# Altium integrated library NXP Semiconductors Automotive MOSFETs.IntLib: 540 symbols (part 3 of 16)
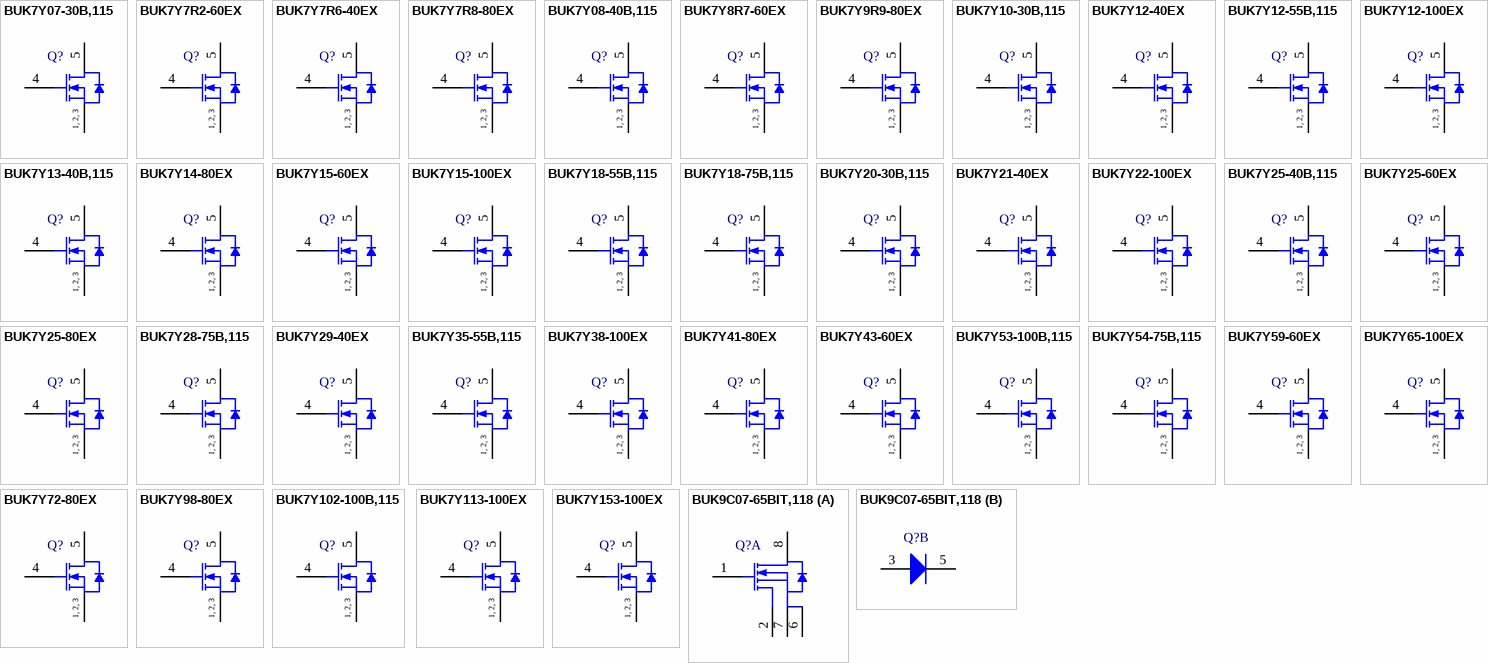
[diagram p16: symbols BUK7Y07-30B,115 to BUK9C07-65BIT,118]

## BUK7Y12-40EX
designator Q?
N-Channel Standard Level MOSFET, 40 V, 52 A, 5-Pin SOT669, Tape and Reel; Manufacturer: NXP Semiconductors; PartNumber: BUK7Y12-40EX; Automotive Qualified: Y; Channel Type: N; ID [max] (A): 52; IDM [max] (A): 210; Packing: Tape & Reel; Qr [typ] (nC): 7.4; VDS [max] (V): 40; VGSth [typ] (V): 3; PackageVersion: 13-02-27, 02/2013; PackageReference: SOT669; PackageDescription: 4-Pin Plastic Single-ended Surface Mounted Package, Body 4.9 x 3.95 mm, Pitch 1.27 mm; Supplier 1: Digi-Key; Supplier Part Number 1: 568-10261-2-ND; Supplier 2: Digi-Key; Supplier Part Number 2: 568-10261-1-ND; Supplier 3: Digi-Key; Supplier Part Number 3: 568-10261-6-ND; Supplier 4: Mouser; Supplier Part Number 4: 771-BUK7Y12-40EX; Mounting Technology: Surface Mount; Code_JEDEC: MO-235; ComponentLink1Description: Manufacturer URL; ComponentLink1URL: http://www.nxp.com/; ComponentLink2Description: Datasheet; ComponentLink2URL: http://www.nxp.com/documents/data_sheet/BUK7Y12-40E.pdf; ComponentLink3Description: Package Specification; ComponentLink3URL: http://www.nxp.com/documents/outline_drawing/sot669_po.pdf
footprint NXP-SOT669_N (DPAK, 4-Leads, Body 5x4.1mm, Pitch 1.27mm, IPC Medium Density)
footprint NXP-SOT669_L (DPAK, 4-Leads, Body 5x4.1mm, Pitch 1.27mm, IPC High Density)
footprint NXP-SOT669_M (DPAK, 4-Leads, Body 5x4.1mm, Pitch 1.27mm, IPC Low Density)
pins: 1 S "source", 2 S "source", 3 S "source", 4 G "gate", 5 D "mounting base; connected to drain"
text: 1, 2, 3

## BUK7Y12-55B,115
designator Q?
N-Channel TrenchMOS Standard Level FET, 55 V, 61.8 A, 5-Pin SOT669, Tape and Reel; Manufacturer: NXP Semiconductors; PartNumber: BUK7Y12-55B,115; Automotive Qualified: Y; Channel Type: N; ID [max] (A): 61.8; IDM [max] (A): 247; Packing: Tape & Reel; Qr [typ] (nC): 84; VDS [max] (V): 55; VGSth [typ] (V): 3; DatasheetVersion: Rev. 03; PackageVersion: 13-02-27, 02/2013; PackageReference: SOT669; PackageDescription: 4-Pin Plastic Single-ended Surface Mounted Package, Body 4.9 x 3.95 mm, Pitch 1.27 mm; Supplier 1: Digi-Key; Supplier Part Number 1: 568-5514-2-ND; Supplier 2: Digi-Key; Supplier Part Number 2: 568-5514-1-ND; Supplier 3: Digi-Key; Supplier Part Number 3: 568-5514-6-ND; Supplier 4: Mouser; Supplier Part Number 4: 771-BUK7Y12-55B115; Mounting Technology: Surface Mount; Code_JEDEC: MO-235; ComponentLink1Description: Manufacturer URL; ComponentLink1URL: http://www.nxp.com/; ComponentLink2Description: Datasheet; ComponentLink2URL: http://www.nxp.com/documents/data_sheet/BUK7Y12-55B.pdf; ComponentLink3Description: Package Specification; ComponentLink3URL: http://www.nxp.com/documents/outline_drawing/sot669_po.pdf
footprint NXP-SOT669_N (DPAK, 4-Leads, Body 5x4.1mm, Pitch 1.27mm, IPC Medium Density)
footprint NXP-SOT669_L (DPAK, 4-Leads, Body 5x4.1mm, Pitch 1.27mm, IPC High Density)
footprint NXP-SOT669_M (DPAK, 4-Leads, Body 5x4.1mm, Pitch 1.27mm, IPC Low Density)
pins: 1 S "source", 2 S "source", 3 S "source", 4 G "gate", 5 D "mounting base; connected to drain"
text: 1, 2, 3

## BUK7Y12-100EX
designator Q?
N-Channel Standard Level MOSFET, 100 V, 85 A, 5-Pin SOT669, Tape and Reel; Manufacturer: NXP Semiconductors; PartNumber: BUK7Y12-100EX; Automotive Qualified: Y; Channel Type: N; ID [max] (A): 85; IDM [max] (A): 339; Packing: Tape & Reel; Qr [typ] (nC): 104; VDS [max] (V): 100; VGSth [typ] (V): 3; PackageVersion: 13-02-27, 02/2013; PackageReference: SOT669; PackageDescription: 4-Pin Plastic Single-ended Surface Mounted Package, Body 4.9 x 3.95 mm, Pitch 1.27 mm; Supplier 1: Digi-Key; Supplier Part Number 1: 568-10963-2-ND; Supplier 2: Digi-Key; Supplier Part Number 2: 568-10963-1-ND; Supplier 3: Digi-Key; Supplier Part Number 3: 568-10963-6-ND; Supplier 4: Mouser; Supplier Part Number 4: 771-BUK7Y12-100EX; Mounting Technology: Surface Mount; Code_JEDEC: MO-235; ComponentLink1Description: Manufacturer URL; ComponentLink1URL: http://www.nxp.com/; ComponentLink2Description: Datasheet; ComponentLink2URL: http://www.nxp.com/documents/data_sheet/BUK7Y12-100E.pdf; ComponentLink3Description: Package Specification; ComponentLink3URL: http://www.nxp.com/documents/outline_drawing/sot669_po.pdf
footprint NXP-SOT669_N (DPAK, 4-Leads, Body 5x4.1mm, Pitch 1.27mm, IPC Medium Density)
footprint NXP-SOT669_L (DPAK, 4-Leads, Body 5x4.1mm, Pitch 1.27mm, IPC High Density)
footprint NXP-SOT669_M (DPAK, 4-Leads, Body 5x4.1mm, Pitch 1.27mm, IPC Low Density)
pins: 1 S "source", 2 S "source", 3 S "source", 4 G "gate", 5 D "mounting base; connected to drain"
text: 1, 2, 3

## BUK7Y13-40B,115
designator Q?
N-Channel TrenchMOS Standard Level FET, 40 V, 58 A, 5-Pin SOT669, Tape and Reel; Manufacturer: NXP Semiconductors; PartNumber: BUK7Y13-40B,115; Automotive Qualified: Y; Channel Type: N; ID [max] (A): 58; IDM [max] (A): 234; Packing: Tape & Reel; Qr [typ] (nC): 22; VDS [max] (V): 40; VGSth [typ] (V): 3; DatasheetVersion: Rev. 03; PackageVersion: 13-02-27, 02/2013; PackageReference: SOT669; PackageDescription: 4-Pin Plastic Single-ended Surface Mounted Package, Body 4.9 x 3.95 mm, Pitch 1.27 mm; Supplier 1: Digi-Key; Supplier Part Number 1: 568-6232-2-ND; Supplier 2: Digi-Key; Supplier Part Number 2: 568-6232-1-ND; Supplier 3: Digi-Key; Supplier Part Number 3: 568-6232-6-ND; Supplier 4: Newark; Supplier Part Number 4: 79R1847; Supplier 5: Mouser; Supplier Part Number 5: 771-BUK7Y13-40B,115; Mounting Technology: Surface Mount; Code_JEDEC: MO-235; ComponentLink1Description: Manufacturer URL; ComponentLink1URL: http://www.nxp.com/; ComponentLink2Description: Datasheet; ComponentLink2URL: http://www.nxp.com/documents/data_sheet/BUK7Y13-40B.pdf; ComponentLink3Description: Package Specification; ComponentLink3URL: http://www.nxp.com/documents/outline_drawing/sot669_po.pdf
footprint NXP-SOT669_N (DPAK, 4-Leads, Body 5x4.1mm, Pitch 1.27mm, IPC Medium Density)
footprint NXP-SOT669_L (DPAK, 4-Leads, Body 5x4.1mm, Pitch 1.27mm, IPC High Density)
footprint NXP-SOT669_M (DPAK, 4-Leads, Body 5x4.1mm, Pitch 1.27mm, IPC Low Density)
pins: 1 S "source", 2 S "source", 3 S "source", 4 G "gate", 5 D "mounting base; connected to drain"
text: 1, 2, 3

## BUK7Y14-80EX
designator Q?
N-Channel Standard Level MOSFET, 80 V, 65 A, 5-Pin SOT669, Tape and Reel; Manufacturer: NXP Semiconductors; PartNumber: BUK7Y14-80EX; Automotive Qualified: Y; Channel Type: N; ID [max] (A): 65; IDM [max] (A): 259; Packing: Tape & Reel; Qr [typ] (nC): 32.4; VDS [max] (V): 80; VGSth [typ] (V): 3; PackageVersion: 13-02-27, 02/2013; PackageReference: SOT669; PackageDescription: 4-Pin Plastic Single-ended Surface Mounted Package, Body 4.9 x 3.95 mm, Pitch 1.27 mm; Supplier 1: Digi-Key; Supplier Part Number 1: 568-11415-2-ND; Supplier 2: Digi-Key; Supplier Part Number 2: 568-11415-1-ND; Supplier 3: Digi-Key; Supplier Part Number 3: 568-11415-6-ND; Supplier 4: Mouser; Supplier Part Number 4: 771-BUK7Y14-80EX; Mounting Technology: Surface Mount; Code_JEDEC: MO-235; ComponentLink1Description: Manufacturer URL; ComponentLink1URL: http://www.nxp.com/; ComponentLink2Description: Datasheet; ComponentLink2URL: http://www.nxp.com/documents/data_sheet/BUK7Y14-80E.pdf; ComponentLink3Description: Package Specification; ComponentLink3URL: http://www.nxp.com/documents/outline_drawing/sot669_po.pdf
footprint NXP-SOT669_N (DPAK, 4-Leads, Body 5x4.1mm, Pitch 1.27mm, IPC Medium Density)
footprint NXP-SOT669_L (DPAK, 4-Leads, Body 5x4.1mm, Pitch 1.27mm, IPC High Density)
footprint NXP-SOT669_M (DPAK, 4-Leads, Body 5x4.1mm, Pitch 1.27mm, IPC Low Density)
pins: 1 S "source", 2 S "source", 3 S "source", 4 G "gate", 5 D "mounting base; connected to drain"
text: 1, 2, 3

## BUK7Y15-60EX
designator Q?
N-Channel Standard Level MOSFET, 60 V, 53 A, 5-Pin SOT669, Tape and Reel; Manufacturer: NXP Semiconductors; PartNumber: BUK7Y15-60EX; Automotive Qualified: Y; Channel Type: N; ID [max] (A): 53; IDM [max] (A): 212; Packing: Tape & Reel; Qr [typ] (nC): 20.6; VDS [max] (V): 60; VGSth [typ] (V): 3; PackageVersion: 13-02-27, 02/2013; PackageReference: SOT669; PackageDescription: 4-Pin Plastic Single-ended Surface Mounted Package, Body 4.9 x 3.95 mm, Pitch 1.27 mm; Supplier 1: Digi-Key; Supplier Part Number 1: 568-10262-2-ND; Supplier 2: Digi-Key; Supplier Part Number 2: 568-10262-1-ND; Supplier 3: Digi-Key; Supplier Part Number 3: 568-10262-6-ND; Supplier 4: Mouser; Supplier Part Number 4: 771-BUK7Y15-60EX; Mounting Technology: Surface Mount; Code_JEDEC: MO-235; ComponentLink1Description: Manufacturer URL; ComponentLink1URL: http://www.nxp.com/; ComponentLink2Description: Datasheet; ComponentLink2URL: http://www.nxp.com/documents/data_sheet/BUK7Y15-60E.pdf; ComponentLink3Description: Package Specification; ComponentLink3URL: http://www.nxp.com/documents/outline_drawing/sot669_po.pdf
footprint NXP-SOT669_N (DPAK, 4-Leads, Body 5x4.1mm, Pitch 1.27mm, IPC Medium Density)
footprint NXP-SOT669_L (DPAK, 4-Leads, Body 5x4.1mm, Pitch 1.27mm, IPC High Density)
footprint NXP-SOT669_M (DPAK, 4-Leads, Body 5x4.1mm, Pitch 1.27mm, IPC Low Density)
pins: 1 S "source", 2 S "source", 3 S "source", 4 G "gate", 5 D "mounting base; connected to drain"
text: 1, 2, 3

## BUK7Y15-100EX
designator Q?
N-Channel Standard Level MOSFET, 100 V, 68 A, 5-Pin SOT669, Tape and Reel; Manufacturer: NXP Semiconductors; PartNumber: BUK7Y15-100EX; Automotive Qualified: Y; Channel Type: N; ID [max] (A): 68; IDM [max] (A): 274; Packing: Tape & Reel; Qr [typ] (nC): 82; VDS [max] (V): 100; VGSth [typ] (V): 3; PackageVersion: 13-02-27, 02/2013; PackageReference: SOT669; PackageDescription: 4-Pin Plastic Single-ended Surface Mounted Package, Body 4.9 x 3.95 mm, Pitch 1.27 mm; Supplier 1: Digi-Key; Supplier Part Number 1: 568-10964-2-ND; Supplier 2: Digi-Key; Supplier Part Number 2: 568-10964-1-ND; Supplier 3: Digi-Key; Supplier Part Number 3: 568-10964-6-ND; Supplier 4: Mouser; Supplier Part Number 4: 771-BUK7Y15-100EX; Mounting Technology: Surface Mount; Code_JEDEC: MO-235; ComponentLink1Description: Manufacturer URL; ComponentLink1URL: http://www.nxp.com/; ComponentLink2Description: Datasheet; ComponentLink2URL: http://www.nxp.com/documents/data_sheet/BUK7Y15-100E.pdf; ComponentLink3Description: Package Specification; ComponentLink3URL: http://www.nxp.com/documents/outline_drawing/sot669_po.pdf
footprint NXP-SOT669_N (DPAK, 4-Leads, Body 5x4.1mm, Pitch 1.27mm, IPC Medium Density)
footprint NXP-SOT669_L (DPAK, 4-Leads, Body 5x4.1mm, Pitch 1.27mm, IPC High Density)
footprint NXP-SOT669_M (DPAK, 4-Leads, Body 5x4.1mm, Pitch 1.27mm, IPC Low Density)
pins: 1 S "source", 2 S "source", 3 S "source", 4 G "gate", 5 D "mounting base; connected to drain"
text: 1, 2, 3

## BUK7Y18-55B,115
designator Q?
N-Channel TrenchMOS Standard Level FET, 55 V, 47.4 A, 5-Pin SOT669, Tape and Reel; Manufacturer: NXP Semiconductors; PartNumber: BUK7Y18-55B,115; Automotive Qualified: Y; Channel Type: N; ID [max] (A): 47.4; IDM [max] (A): 189; Packing: Tape & Reel; Qr [typ] (nC): 55; VGSth [typ] (V): 3; DatasheetVersion: Rev. 04; PackageVersion: 13-02-27, 02/2013; PackageReference: SOT669; PackageDescription: 4-Pin Plastic Single-ended Surface Mounted Package, Body 4.9 x 3.95 mm, Pitch 1.27 mm; Supplier 1: Digi-Key; Supplier Part Number 1: 568-5515-2-ND; Supplier 2: Digi-Key; Supplier Part Number 2: 568-5515-1-ND; Supplier 3: Digi-Key; Supplier Part Number 3: 568-5515-6-ND; Supplier 4: Mouser; Supplier Part Number 4: 771-BUK7Y18-55B115; VDS [max] (V): 55; Mounting Technology: Surface Mount; Code_JEDEC: MO-235; ComponentLink1Description: Manufacturer URL; ComponentLink1URL: http://www.nxp.com/; ComponentLink2Description: Datasheet; ComponentLink2URL: http://www.nxp.com/documents/data_sheet/BUK7Y18-55B.pdf; ComponentLink3Description: Package Specification; ComponentLink3URL: http://www.nxp.com/documents/outline_drawing/sot669_po.pdf
footprint NXP-SOT669_N (DPAK, 4-Leads, Body 5x4.1mm, Pitch 1.27mm, IPC Medium Density)
footprint NXP-SOT669_L (DPAK, 4-Leads, Body 5x4.1mm, Pitch 1.27mm, IPC High Density)
footprint NXP-SOT669_M (DPAK, 4-Leads, Body 5x4.1mm, Pitch 1.27mm, IPC Low Density)
pins: 1 S "source", 2 S "source", 3 S "source", 4 G "gate", 5 D "mounting base; connected to drain"
text: 1, 2, 3

## BUK7Y18-75B,115
designator Q?
N-Channel TrenchMOS Standard Level FET, 75 V, 49 A, 5-Pin SOT669, Tape and Reel; Manufacturer: NXP Semiconductors; PartNumber: BUK7Y18-75B,115; Automotive Qualified: Y; Channel Type: N; ID [max] (A): 49; IDM [max] (A): 198; Packing: Tape & Reel; Qr [typ] (nC): 143; VDS [max] (V): 75; VGSth [typ] (V): 3; PackageVersion: 13-02-27, 02/2013; PackageReference: SOT669; PackageDescription: 4-Pin Plastic Single-ended Surface Mounted Package, Body 4.9 x 3.95 mm, Pitch 1.27 mm; Supplier 1: Digi-Key; Supplier Part Number 1: 568-5516-2-ND; Supplier 2: Digi-Key; Supplier Part Number 2: 568-5516-1-ND; Supplier 3: Digi-Key; Supplier Part Number 3: 568-5516-6-ND; Supplier 4: Mouser; Supplier Part Number 4: 771-BUK7Y18-75B115; Mounting Technology: Surface Mount; Code_JEDEC: MO-235; ComponentLink1Description: Manufacturer URL; ComponentLink1URL: http://www.nxp.com/; ComponentLink2Description: Datasheet; ComponentLink2URL: http://www.nxp.com/documents/data_sheet/BUK7Y18-75B.pdf; ComponentLink3Description: Package Specification; ComponentLink3URL: http://www.nxp.com/documents/outline_drawing/sot669_po.pdf
footprint NXP-SOT669_N (DPAK, 4-Leads, Body 5x4.1mm, Pitch 1.27mm, IPC Medium Density)
footprint NXP-SOT669_L (DPAK, 4-Leads, Body 5x4.1mm, Pitch 1.27mm, IPC High Density)
footprint NXP-SOT669_M (DPAK, 4-Leads, Body 5x4.1mm, Pitch 1.27mm, IPC Low Density)
pins: 1 S "source", 2 S "source", 3 S "source", 4 G "gate", 5 D "mounting base; connected to drain"
text: 1, 2, 3

## BUK7Y20-30B,115
designator Q?
N-Channel TrenchMOS Standard Level FET, 30 V, 39.5 A, 5-Pin SOT669, Tape and Reel; Manufacturer: NXP Semiconductors; PartNumber: BUK7Y20-30B,115; Automotive Qualified: Y; Channel Type: N; ID [max] (A): 39.5; IDM [max] (A): 158; Packing: Tape & Reel; Qr [typ] (nC): 27.4; VDS [max] (V): 30; VGSth [typ] (V): 3; DatasheetVersion: Rev. 04; PackageVersion: 13-02-27, 02/2013; PackageReference: SOT669; PackageDescription: 4-Pin Plastic Single-ended Surface Mounted Package, Body 4.9 x 3.95 mm, Pitch 1.27 mm; Supplier 1: Digi-Key; Supplier Part Number 1: 568-5517-2-ND; Supplier 2: Digi-Key; Supplier Part Number 2: 568-5517-1-ND; Supplier 3: Digi-Key; Supplier Part Number 3: 568-5517-6-ND; Supplier 4: Mouser; Supplier Part Number 4: 771-BUK7Y20-30B115; Mounting Technology: Surface Mount; Code_JEDEC: MO-235; ComponentLink1Description: Manufacturer URL; ComponentLink1URL: http://www.nxp.com/; ComponentLink2Description: Datasheet; ComponentLink2URL: http://www.nxp.com/documents/data_sheet/BUK7Y20-30B.pdf; ComponentLink3Description: Package Specification; ComponentLink3URL: http://www.nxp.com/documents/outline_drawing/sot669_po.pdf
footprint NXP-SOT669_N (DPAK, 4-Leads, Body 5x4.1mm, Pitch 1.27mm, IPC Medium Density)
footprint NXP-SOT669_L (DPAK, 4-Leads, Body 5x4.1mm, Pitch 1.27mm, IPC High Density)
footprint NXP-SOT669_M (DPAK, 4-Leads, Body 5x4.1mm, Pitch 1.27mm, IPC Low Density)
pins: 1 S "source", 2 S "source", 3 S "source", 4 G "gate", 5 D "mounting base; connected to drain"
text: 1, 2, 3

## BUK7Y21-40EX
designator Q?
N-Channel Standard Level MOSFET, 40 V, 33 A, 5-Pin SOT669, Tape and Reel; Manufacturer: NXP Semiconductors; PartNumber: BUK7Y21-40EX; Automotive Qualified: Y; Channel Type: N; ID [max] (A): 33; IDM [max] (A): 132; Packing: Tape & Reel; Qr [typ] (nC): 8; VDS [max] (V): 40; VGSth [typ] (V): 3; PackageVersion: 13-02-27, 02/2013; PackageReference: SOT669; PackageDescription: 4-Pin Plastic Single-ended Surface Mounted Package, Body 4.9 x 3.95 mm, Pitch 1.27 mm; Supplier 1: Digi-Key; Supplier Part Number 1: 568-10263-2-ND; Supplier 2: Digi-Key; Supplier Part Number 2: 568-10263-1-ND; Supplier 3: Digi-Key; Supplier Part Number 3: 568-10263-6-ND; Supplier 4: Mouser; Supplier Part Number 4: 771-BUK7Y21-40EX; Mounting Technology: Surface Mount; Code_JEDEC: MO-235; ComponentLink1Description: Manufacturer URL; ComponentLink1URL: http://www.nxp.com/; ComponentLink2Description: Datasheet; ComponentLink2URL: http://www.nxp.com/documents/data_sheet/BUK7Y21-40E.pdf; ComponentLink3Description: Package Specification; ComponentLink3URL: http://www.nxp.com/documents/outline_drawing/sot669_po.pdf
footprint NXP-SOT669_N (DPAK, 4-Leads, Body 5x4.1mm, Pitch 1.27mm, IPC Medium Density)
footprint NXP-SOT669_L (DPAK, 4-Leads, Body 5x4.1mm, Pitch 1.27mm, IPC High Density)
footprint NXP-SOT669_M (DPAK, 4-Leads, Body 5x4.1mm, Pitch 1.27mm, IPC Low Density)
pins: 1 S "source", 2 S "source", 3 S "source", 4 G "gate", 5 D "mounting base; connected to drain"
text: 1, 2, 3

## BUK7Y22-100EX
designator Q?
N-Channel Standard Level MOSFET, 100 V, 49 A, 5-Pin SOT669, Tape and Reel; Manufacturer: NXP Semiconductors; PartNumber: BUK7Y22-100EX; Automotive Qualified: Y; Channel Type: N; ID [max] (A): 49; IDM [max] (A): 196; Packing: Tape & Reel; Qr [typ] (nC): 64; VDS [max] (V): 100; VGSth [typ] (V): 3; PackageVersion: 13-02-27, 02/2013; PackageReference: SOT669; PackageDescription: 4-Pin Plastic Single-ended Surface Mounted Package, Body 4.9 x 3.95 mm, Pitch 1.27 mm; Supplier 1: Digi-Key; Supplier Part Number 1: 568-10965-2-ND; Supplier 2: Digi-Key; Supplier Part Number 2: 568-10965-1-ND; Supplier 3: Digi-Key; Supplier Part Number 3: 568-10965-6-ND; Supplier 4: Mouser; Supplier Part Number 4: 771-BUK7Y22-100EX; Mounting Technology: Surface Mount; Code_JEDEC: MO-235; ComponentLink1Description: Manufacturer URL; ComponentLink1URL: http://www.nxp.com/; ComponentLink2Description: Datasheet; ComponentLink2URL: http://www.nxp.com/documents/data_sheet/BUK7Y22-100E.pdf; ComponentLink3Description: Package Specification; ComponentLink3URL: http://www.nxp.com/documents/outline_drawing/sot669_po.pdf
footprint NXP-SOT669_N (DPAK, 4-Leads, Body 5x4.1mm, Pitch 1.27mm, IPC Medium Density)
footprint NXP-SOT669_L (DPAK, 4-Leads, Body 5x4.1mm, Pitch 1.27mm, IPC High Density)
footprint NXP-SOT669_M (DPAK, 4-Leads, Body 5x4.1mm, Pitch 1.27mm, IPC Low Density)
pins: 1 S "source", 2 S "source", 3 S "source", 4 G "gate", 5 D "mounting base; connected to drain"
text: 1, 2, 3

## BUK7Y25-40B,115
designator Q?
N-Channel TrenchMOS Standard Level FET, 40 V, 35.3 A, 5-Pin SOT669, Tape and Reel; Manufacturer: NXP Semiconductors; PartNumber: BUK7Y25-40B,115; Automotive Qualified: Y; Channel Type: N; ID [max] (A): 35.3; IDM [max] (A): 141; Packing: Tape & Reel; Qr [typ] (nC): 42; VDS [max] (V): 40; VGSth [typ] (V): 3; DatasheetVersion: Rev. 04; PackageVersion: 13-02-27, 02/2013; PackageReference: SOT669; PackageDescription: 4-Pin Plastic Single-ended Surface Mounted Package, Body 4.9 x 3.95 mm, Pitch 1.27 mm; Supplier 1: Digi-Key; Supplier Part Number 1: 568-5518-2-ND; Supplier 2: Digi-Key; Supplier Part Number 2: 568-5518-1-ND; Supplier 3: Digi-Key; Supplier Part Number 3: 568-5518-6-ND; Supplier 4: Mouser; Supplier Part Number 4: 771-BUK7Y2540B115; Mounting Technology: Surface Mount; Code_JEDEC: MO-235; ComponentLink1Description: Manufacturer URL; ComponentLink1URL: http://www.nxp.com/; ComponentLink2Description: Datasheet; ComponentLink2URL: http://www.nxp.com/documents/data_sheet/BUK7Y25-40B.pdf; ComponentLink3Description: Package Specification; ComponentLink3URL: http://www.nxp.com/documents/outline_drawing/sot669_po.pdf
footprint NXP-SOT669_N (DPAK, 4-Leads, Body 5x4.1mm, Pitch 1.27mm, IPC Medium Density)
footprint NXP-SOT669_L (DPAK, 4-Leads, Body 5x4.1mm, Pitch 1.27mm, IPC High Density)
footprint NXP-SOT669_M (DPAK, 4-Leads, Body 5x4.1mm, Pitch 1.27mm, IPC Low Density)
pins: 1 S "source", 2 S "source", 3 S "source", 4 G "gate", 5 D "mounting base; connected to drain"
text: 1, 2, 3

## BUK7Y25-60EX
designator Q?
N-Channel Standard Level MOSFET, 60 V, 34 A, 5-Pin SOT669, Tape and Reel; Manufacturer: NXP Semiconductors; PartNumber: BUK7Y25-60EX; Automotive Qualified: Y; Channel Type: N; ID [max] (A): 34; IDM [max] (A): 136; Packing: Tape & Reel; Qr [typ] (nC): 14.6; VDS [max] (V): 60; VGSth [typ] (V): 3; PackageVersion: 13-02-27, 02/2013; PackageReference: SOT669; PackageDescription: 4-Pin Plastic Single-ended Surface Mounted Package, Body 4.9 x 3.95 mm, Pitch 1.27 mm; Supplier 1: Digi-Key; Supplier Part Number 1: 568-11417-2-ND; Supplier 2: Digi-Key; Supplier Part Number 2: 568-11417-1-ND; Supplier 3: Digi-Key; Supplier Part Number 3: 568-11417-6-ND; Supplier 4: Mouser; Supplier Part Number 4: 771-BUK7Y25-60EX; Mounting Technology: Surface Mount; Code_JEDEC: MO-235; ComponentLink1Description: Manufacturer URL; ComponentLink1URL: http://www.nxp.com/; ComponentLink2Description: Datasheet; ComponentLink2URL: http://www.nxp.com/documents/data_sheet/BUK7Y25-60E.pdf; ComponentLink3Description: Package Specification; ComponentLink3URL: http://www.nxp.com/documents/outline_drawing/sot669_po.pdf
footprint NXP-SOT669_N (DPAK, 4-Leads, Body 5x4.1mm, Pitch 1.27mm, IPC Medium Density)
footprint NXP-SOT669_L (DPAK, 4-Leads, Body 5x4.1mm, Pitch 1.27mm, IPC High Density)
footprint NXP-SOT669_M (DPAK, 4-Leads, Body 5x4.1mm, Pitch 1.27mm, IPC Low Density)
pins: 1 S "source", 2 S "source", 3 S "source", 4 G "gate", 5 D "mounting base; connected to drain"
text: 1, 2, 3

## BUK7Y25-80EX
designator Q?
N-Channel Standard Level MOSFET, 80 V, 39 A, 5-Pin SOT669, Tape and Reel; Manufacturer: NXP Semiconductors; PartNumber: BUK7Y25-80EX; Automotive Qualified: Y; Channel Type: N; ID [max] (A): 39; IDM [max] (A): 156; Packing: Tape & Reel; Qr [typ] (nC): 30.7; VDS [max] (V): 80; VGSth [typ] (V): 3; PackageVersion: 13-02-27, 02/2013; PackageReference: SOT669; PackageDescription: 4-Pin Plastic Single-ended Surface Mounted Package, Body 4.9 x 3.95 mm, Pitch 1.27 mm; Supplier 1: Digi-Key; Supplier Part Number 1: 568-10264-2-ND; Supplier 2: Digi-Key; Supplier Part Number 2: 568-10264-1-ND; Supplier 3: Digi-Key; Supplier Part Number 3: 568-10264-6-ND; Supplier 4: Mouser; Supplier Part Number 4: 771-BUK7Y25-80EX; Mounting Technology: Surface Mount; Code_JEDEC: MO-235; ComponentLink1Description: Manufacturer URL; ComponentLink1URL: http://www.nxp.com/; ComponentLink2Description: Datasheet; ComponentLink2URL: http://www.nxp.com/documents/data_sheet/BUK7Y25-80E.pdf; ComponentLink3Description: Package Specification; ComponentLink3URL: http://www.nxp.com/documents/outline_drawing/sot669_po.pdf
footprint NXP-SOT669_N (DPAK, 4-Leads, Body 5x4.1mm, Pitch 1.27mm, IPC Medium Density)
footprint NXP-SOT669_L (DPAK, 4-Leads, Body 5x4.1mm, Pitch 1.27mm, IPC High Density)
footprint NXP-SOT669_M (DPAK, 4-Leads, Body 5x4.1mm, Pitch 1.27mm, IPC Low Density)
pins: 1 S "source", 2 S "source", 3 S "source", 4 G "gate", 5 D "mounting base; connected to drain"
text: 1, 2, 3

## BUK7Y28-75B,115
designator Q?
N-Channel TrenchMOS Standard Level FET, 75 V, 35.5 A, 5-Pin SOT669, Tape and Reel; Manufacturer: NXP Semiconductors; PartNumber: BUK7Y28-75B,115; Automotive Qualified: Y; Channel Type: N; ID [max] (A): 35.5; IDM [max] (A): 142; Packing: Tape & Reel; Qr [typ] (nC): 115; VDS [max] (V): 75; VGSth [typ] (V): 3; DatasheetVersion: Rev. 04; PackageVersion: 13-02-27, 02/2013; PackageReference: SOT669; PackageDescription: 4-Pin Plastic Single-ended Surface Mounted Package, Body 4.9 x 3.95 mm, Pitch 1.27 mm; Supplier 1: Digi-Key; Supplier Part Number 1: 568-5519-2-ND; Supplier 2: Digi-Key; Supplier Part Number 2: 568-5519-1-ND; Supplier 3: Digi-Key; Supplier Part Number 3: 568-5519-6-ND; Supplier 4: Mouser; Supplier Part Number 4: 771-BUK7Y28-75B115; Mounting Technology: Surface Mount; Code_JEDEC: MO-235; ComponentLink1Description: Manufacturer URL; ComponentLink1URL: http://www.nxp.com/; ComponentLink2Description: Datasheet; ComponentLink2URL: http://www.nxp.com/documents/data_sheet/BUK7Y28-75B.pdf; ComponentLink3Description: Package Specification; ComponentLink3URL: http://www.nxp.com/documents/outline_drawing/sot669_po.pdf
footprint NXP-SOT669_N (DPAK, 4-Leads, Body 5x4.1mm, Pitch 1.27mm, IPC Medium Density)
footprint NXP-SOT669_L (DPAK, 4-Leads, Body 5x4.1mm, Pitch 1.27mm, IPC High Density)
footprint NXP-SOT669_M (DPAK, 4-Leads, Body 5x4.1mm, Pitch 1.27mm, IPC Low Density)
pins: 1 S "source", 2 S "source", 3 S "source", 4 G "gate", 5 D "mounting base; connected to drain"
text: 1, 2, 3

## BUK7Y29-40EX
designator Q?
N-Channel Standard Level MOSFET, 40 V, 26 A, 5-Pin SOT669, Tape and Reel; Manufacturer: NXP Semiconductors; PartNumber: BUK7Y29-40EX; Automotive Qualified: Y; Channel Type: N; ID [max] (A): 26; IDM [max] (A): 102; Packing: Tape & Reel; Qr [typ] (nC): 6.8; VDS [max] (V): 40; VGSth [typ] (V): 3; PackageVersion: 13-02-27, 02/2013; PackageReference: SOT669; PackageDescription: 4-Pin Plastic Single-ended Surface Mounted Package, Body 4.9 x 3.95 mm, Pitch 1.27 mm; Supplier 1: Digi-Key; Supplier Part Number 1: 568-10265-2-ND; Supplier 2: Digi-Key; Supplier Part Number 2: 568-10265-1-ND; Supplier 3: Digi-Key; Supplier Part Number 3: 568-10265-6-ND; Supplier 4: Mouser; Supplier Part Number 4: 771-BUK7Y29-40EX; Mounting Technology: Surface Mount; Code_JEDEC: MO-235; ComponentLink1Description: Manufacturer URL; ComponentLink1URL: http://www.nxp.com/; ComponentLink2Description: Datasheet; ComponentLink2URL: http://www.nxp.com/documents/data_sheet/BUK7Y29-40E.pdf; ComponentLink3Description: Package Specification; ComponentLink3URL: http://www.nxp.com/documents/outline_drawing/sot669_po.pdf
footprint NXP-SOT669_N (DPAK, 4-Leads, Body 5x4.1mm, Pitch 1.27mm, IPC Medium Density)
footprint NXP-SOT669_L (DPAK, 4-Leads, Body 5x4.1mm, Pitch 1.27mm, IPC High Density)
footprint NXP-SOT669_M (DPAK, 4-Leads, Body 5x4.1mm, Pitch 1.27mm, IPC Low Density)
pins: 1 S "source", 2 S "source", 3 S "source", 4 G "gate", 5 D "mounting base; connected to drain"
text: 1, 2, 3

## BUK7Y35-55B,115
designator Q?
N-Channel TrenchMOS Standard Level FET, 55 V, 28.43 A, 5-Pin SOT669, Tape and Reel; Manufacturer: NXP Semiconductors; PartNumber: BUK7Y35-55B,115; Automotive Qualified: Y; Channel Type: N; ID [max] (A): 28.43; IDM [max] (A): 113; Packing: Tape & Reel; Qr [typ] (nC): 59; VDS [max] (V): 55; VGSth [typ] (V): 3; DatasheetVersion: Rev. 04; PackageVersion: 13-02-27, 02/2013; PackageReference: SOT669; PackageDescription: 4-Pin Plastic Single-ended Surface Mounted Package, Body 4.9 x 3.95 mm, Pitch 1.27 mm; Supplier 1: Digi-Key; Supplier Part Number 1: 568-5520-2-ND; Supplier 2: Digi-Key; Supplier Part Number 2: 568-5520-1-ND; Supplier 3: Digi-Key; Supplier Part Number 3: 568-5520-6-ND; Supplier 4: Mouser; Supplier Part Number 4: 771-BUK7Y35-55B115; Mounting Technology: Surface Mount; Code_JEDEC: MO-235; ComponentLink1Description: Manufacturer URL; ComponentLink1URL: http://www.nxp.com/; ComponentLink2Description: Datasheet; ComponentLink2URL: http://www.nxp.com/documents/data_sheet/BUK7Y35-55B.pdf; ComponentLink3Description: Package Specification; ComponentLink3URL: http://www.nxp.com/documents/outline_drawing/sot669_po.pdf
footprint NXP-SOT669_N (DPAK, 4-Leads, Body 5x4.1mm, Pitch 1.27mm, IPC Medium Density)
footprint NXP-SOT669_L (DPAK, 4-Leads, Body 5x4.1mm, Pitch 1.27mm, IPC High Density)
footprint NXP-SOT669_M (DPAK, 4-Leads, Body 5x4.1mm, Pitch 1.27mm, IPC Low Density)
pins: 1 S "source", 2 S "source", 3 S "source", 4 G "gate", 5 D "mounting base; connected to drain"
text: 1, 2, 3

## BUK7Y38-100EX
designator Q?
N-Channel Standard Level MOSFET, 100 V, 30 A, 5-Pin SOT669, Tape and Reel; Manufacturer: NXP Semiconductors; PartNumber: BUK7Y38-100EX; Automotive Qualified: Y; Channel Type: N; ID [max] (A): 30; IDM [max] (A): 120; Packing: Tape & Reel; Qr [typ] (nC): 45.5; VDS [max] (V): 100; VGSth [typ] (V): 3; PackageVersion: 13-02-27, 02/2013; PackageReference: SOT669; PackageDescription: 4-Pin Plastic Single-ended Surface Mounted Package, Body 4.9 x 3.95 mm, Pitch 1.27 mm; Supplier 1: Digi-Key; Supplier Part Number 1: 568-10266-2-ND; Supplier 2: Digi-Key; Supplier Part Number 2: 568-10266-1-ND; Supplier 3: Digi-Key; Supplier Part Number 3: 568-10266-6-ND; Supplier 4: Mouser; Supplier Part Number 4: 771-BUK7Y38-100EX; Mounting Technology: Surface Mount; Code_JEDEC: MO-235; ComponentLink1Description: Manufacturer URL; ComponentLink1URL: http://www.nxp.com/; ComponentLink2Description: Datasheet; ComponentLink2URL: http://www.nxp.com/documents/data_sheet/BUK7Y38-100E.pdf; ComponentLink3Description: Package Specification; ComponentLink3URL: http://www.nxp.com/documents/outline_drawing/sot669_po.pdf
footprint NXP-SOT669_N (DPAK, 4-Leads, Body 5x4.1mm, Pitch 1.27mm, IPC Medium Density)
footprint NXP-SOT669_L (DPAK, 4-Leads, Body 5x4.1mm, Pitch 1.27mm, IPC High Density)
footprint NXP-SOT669_M (DPAK, 4-Leads, Body 5x4.1mm, Pitch 1.27mm, IPC Low Density)
pins: 1 S "source", 2 S "source", 3 S "source", 4 G "gate", 5 D "mounting base; connected to drain"
text: 1, 2, 3

## BUK7Y41-80EX
designator Q?
N-Channel Standard Level MOSFET, 80 V, 25 A, 5-Pin SOT669, Tape and Reel; Manufacturer: NXP Semiconductors; PartNumber: BUK7Y41-80EX; Automotive Qualified: Y; Channel Type: N; ID [max] (A): 25; IDM [max] (A): 100; Packing: Tape & Reel; Qr [typ] (nC): 28.6; VDS [max] (V): 80; VGSth [typ] (V): 3; PackageVersion: 13-02-27, 02/2013; PackageReference: SOT669; PackageDescription: 4-Pin Plastic Single-ended Surface Mounted Package, Body 4.9 x 3.95 mm, Pitch 1.27 mm; Supplier 1: Digi-Key; Supplier Part Number 1: 568-10966-2-ND; Supplier 2: Digi-Key; Supplier Part Number 2: 568-10966-1-ND; Supplier 3: Digi-Key; Supplier Part Number 3: 568-10966-6-ND; Supplier 4: Mouser; Supplier Part Number 4: 771-BUK7Y41-80EX; Mounting Technology: Surface Mount; Code_JEDEC: MO-235; ComponentLink1Description: Manufacturer URL; ComponentLink1URL: http://www.nxp.com/; ComponentLink2Description: Datasheet; ComponentLink2URL: http://www.nxp.com/documents/data_sheet/BUK7Y41-80E.pdf; ComponentLink3Description: Package Specification; ComponentLink3URL: http://www.nxp.com/documents/outline_drawing/sot669_po.pdf
footprint NXP-SOT669_N (DPAK, 4-Leads, Body 5x4.1mm, Pitch 1.27mm, IPC Medium Density)
footprint NXP-SOT669_L (DPAK, 4-Leads, Body 5x4.1mm, Pitch 1.27mm, IPC High Density)
footprint NXP-SOT669_M (DPAK, 4-Leads, Body 5x4.1mm, Pitch 1.27mm, IPC Low Density)
pins: 1 S "source", 2 S "source", 3 S "source", 4 G "gate", 5 D "mounting base; connected to drain"
text: 1, 2, 3

## BUK7Y43-60EX
designator Q?
N-Channel Standard Level MOSFET, 60 V, 22 A, 5-Pin SOT669, Tape and Reel; Manufacturer: NXP Semiconductors; PartNumber: BUK7Y43-60EX; Automotive Qualified: Y; Channel Type: N; ID [max] (A): 22; IDM [max] (A): 87; Packing: Tape & Reel; Qr [typ] (nC): 13; VDS [max] (V): 60; VGSth [typ] (V): 3; PackageVersion: 13-02-27, 02/2013; PackageReference: SOT669; PackageDescription: 4-Pin Plastic Single-ended Surface Mounted Package, Body 4.9 x 3.95 mm, Pitch 1.27 mm; Supplier 1: Digi-Key; Supplier Part Number 1: 568-10267-2-ND; Supplier 2: Digi-Key; Supplier Part Number 2: 568-10267-1-ND; Supplier 3: Digi-Key; Supplier Part Number 3: 568-10267-6-ND; Supplier 4: Mouser; Supplier Part Number 4: 771-BUK7Y43-60EX; Mounting Technology: Surface Mount; Code_JEDEC: MO-235; ComponentLink1Description: Manufacturer URL; ComponentLink1URL: http://www.nxp.com/; ComponentLink2Description: Datasheet; ComponentLink2URL: http://www.nxp.com/documents/data_sheet/BUK7Y43-60E.pdf; ComponentLink3Description: Package Specification; ComponentLink3URL: http://www.nxp.com/documents/outline_drawing/sot669_po.pdf
footprint NXP-SOT669_N (DPAK, 4-Leads, Body 5x4.1mm, Pitch 1.27mm, IPC Medium Density)
footprint NXP-SOT669_L (DPAK, 4-Leads, Body 5x4.1mm, Pitch 1.27mm, IPC High Density)
footprint NXP-SOT669_M (DPAK, 4-Leads, Body 5x4.1mm, Pitch 1.27mm, IPC Low Density)
pins: 1 S "source", 2 S "source", 3 S "source", 4 G "gate", 5 D "mounting base; connected to drain"
text: 1, 2, 3

## BUK7Y53-100B,115
designator Q?
N-Channel TrenchMOS Standard Level FET, 100 V, 24.8 A, 5-Pin SOT669, Tape and Reel; Manufacturer: NXP Semiconductors; PartNumber: BUK7Y53-100B,115; Automotive Qualified: Y; Channel Type: N; ID [max] (A): 24.8; IDM [max] (A): 99; Packing: Tape & Reel; Qr [typ] (nC): 155; VDS [max] (V): 100; VGSth [typ] (V): 3; DatasheetVersion: Rev. 3; PackageVersion: 13-02-27, 02/2013; PackageReference: SOT669; PackageDescription: 4-Pin Plastic Single-ended Surface Mounted Package, Body 4.9 x 3.95 mm, Pitch 1.27 mm; Supplier 1: Digi-Key; Supplier Part Number 1: 568-9713-2-ND; Supplier 2: Digi-Key; Supplier Part Number 2: 568-9713-1-ND; Supplier 3: Digi-Key; Supplier Part Number 3: 568-9713-6-ND; Supplier 4: Mouser; Supplier Part Number 4: 771-BUK7Y53-100B,115; Mounting Technology: Surface Mount; Code_JEDEC: MO-235; ComponentLink1Description: Manufacturer URL; ComponentLink1URL: http://www.nxp.com/; ComponentLink2Description: Datasheet; ComponentLink2URL: http://www.nxp.com/documents/data_sheet/BUK7Y53-100B.pdf; ComponentLink3Description: Package Specification; ComponentLink3URL: http://www.nxp.com/documents/outline_drawing/sot669_po.pdf
footprint NXP-SOT669_N (DPAK, 4-Leads, Body 5x4.1mm, Pitch 1.27mm, IPC Medium Density)
footprint NXP-SOT669_L (DPAK, 4-Leads, Body 5x4.1mm, Pitch 1.27mm, IPC High Density)
footprint NXP-SOT669_M (DPAK, 4-Leads, Body 5x4.1mm, Pitch 1.27mm, IPC Low Density)
pins: 1 S "source", 2 S "source", 3 S "source", 4 G "gate", 5 D "mounting base; connected to drain"
text: 1, 2, 3

## BUK7Y54-75B,115
designator Q?
N-Channel TrenchMOS Standard Level FET, 75 V, 21.4 A, 5-Pin SOT669, Tape and Reel; Manufacturer: NXP Semiconductors; PartNumber: BUK7Y54-75B,115; Automotive Qualified: Y; Channel Type: N; ID [max] (A): 21.4; IDM [max] (A): 86; Packing: Tape & Reel; Qr [typ] (nC): 98; VDS [max] (V): 75; VGSth [typ] (V): 3; DatasheetVersion: Rev. 04; PackageVersion: 13-02-27, 02/2013; PackageReference: SOT669; PackageDescription: 4-Pin Plastic Single-ended Surface Mounted Package, Body 4.9 x 3.95 mm, Pitch 1.27 mm; Supplier 1: Digi-Key; Supplier Part Number 1: 568-5521-2-ND; Supplier 2: Digi-Key; Supplier Part Number 2: 568-5521-1-ND; Supplier 3: Digi-Key; Supplier Part Number 3: 568-5521-6-ND; Supplier 4: Mouser; Supplier Part Number 4: 771-BUK7Y54-75B115; Mounting Technology: Surface Mount; Code_JEDEC: MO-235; ComponentLink1Description: Manufacturer URL; ComponentLink1URL: http://www.nxp.com/; ComponentLink2Description: Datasheet; ComponentLink2URL: http://www.nxp.com/documents/data_sheet/BUK7Y54-75B.pdf; ComponentLink3Description: Package Specification; ComponentLink3URL: http://www.nxp.com/documents/outline_drawing/sot669_po.pdf
footprint NXP-SOT669_N (DPAK, 4-Leads, Body 5x4.1mm, Pitch 1.27mm, IPC Medium Density)
footprint NXP-SOT669_L (DPAK, 4-Leads, Body 5x4.1mm, Pitch 1.27mm, IPC High Density)
footprint NXP-SOT669_M (DPAK, 4-Leads, Body 5x4.1mm, Pitch 1.27mm, IPC Low Density)
pins: 1 S "source", 2 S "source", 3 S "source", 4 G "gate", 5 D "mounting base; connected to drain"
text: 1, 2, 3

## BUK7Y59-60EX
designator Q?
N-Channel Standard Level MOSFET, 60 V, 17 A, 5-Pin SOT669, Tape and Reel; Manufacturer: NXP Semiconductors; PartNumber: BUK7Y59-60EX; Automotive Qualified: Y; Channel Type: N; ID [max] (A): 17; IDM [max] (A): 67; Packing: Tape & Reel; Qr [typ] (nC): 10.3; VDS [max] (V): 60; VGSth [typ] (V): 3; PackageVersion: 13-02-27, 02/2013; PackageReference: SOT669; PackageDescription: 4-Pin Plastic Single-ended Surface Mounted Package, Body 4.9 x 3.95 mm, Pitch 1.27 mm; Supplier 1: Digi-Key; Supplier Part Number 1: 568-10269-2-ND; Supplier 2: Digi-Key; Supplier Part Number 2: 568-10269-1-ND; Supplier 3: Digi-Key; Supplier Part Number 3: 568-10269-6-ND; Supplier 4: Mouser; Supplier Part Number 4: 771-BUK7Y59-60EX; Mounting Technology: Surface Mount; Code_JEDEC: MO-235; ComponentLink1Description: Manufacturer URL; ComponentLink1URL: http://www.nxp.com/; ComponentLink2Description: Datasheet; ComponentLink2URL: http://www.nxp.com/documents/data_sheet/BUK7Y59-60E.pdf; ComponentLink3Description: Package Specification; ComponentLink3URL: http://www.nxp.com/documents/outline_drawing/sot669_po.pdf
footprint NXP-SOT669_N (DPAK, 4-Leads, Body 5x4.1mm, Pitch 1.27mm, IPC Medium Density)
footprint NXP-SOT669_L (DPAK, 4-Leads, Body 5x4.1mm, Pitch 1.27mm, IPC High Density)
footprint NXP-SOT669_M (DPAK, 4-Leads, Body 5x4.1mm, Pitch 1.27mm, IPC Low Density)
pins: 1 S "source", 2 S "source", 3 S "source", 4 G "gate", 5 D "mounting base; connected to drain"
text: 1, 2, 3

## BUK7Y65-100EX
designator Q?
N-Channel Standard Level MOSFET, 100 V, 19 A, 5-Pin SOT669, Tape and Reel; Manufacturer: NXP Semiconductors; PartNumber: BUK7Y65-100EX; Automotive Qualified: Y; Channel Type: N; ID [max] (A): 19; IDM [max] (A): 76; Packing: Tape & Reel; Qr [typ] (nC): 40.6; VDS [max] (V): 100; VGSth [typ] (V): 3; PackageVersion: 13-02-27, 02/2013; PackageReference: SOT669; PackageDescription: 4-Pin Plastic Single-ended Surface Mounted Package, Body 4.9 x 3.95 mm, Pitch 1.27 mm; Supplier 1: Digi-Key; Supplier Part Number 1: 568-10270-2-ND; Supplier 2: Digi-Key; Supplier Part Number 2: 568-10270-1-ND; Supplier 3: Digi-Key; Supplier Part Number 3: 568-10270-6-ND; Supplier 4: Mouser; Supplier Part Number 4: 771-BUK7Y65-100EX; Mounting Technology: Surface Mount; Code_JEDEC: MO-235; ComponentLink1Description: Manufacturer URL; ComponentLink1URL: http://www.nxp.com/; ComponentLink2Description: Datasheet; ComponentLink2URL: http://www.nxp.com/documents/data_sheet/BUK7Y65-100E.pdf; ComponentLink3Description: Package Specification; ComponentLink3URL: http://www.nxp.com/documents/outline_drawing/sot669_po.pdf
footprint NXP-SOT669_N (DPAK, 4-Leads, Body 5x4.1mm, Pitch 1.27mm, IPC Medium Density)
footprint NXP-SOT669_L (DPAK, 4-Leads, Body 5x4.1mm, Pitch 1.27mm, IPC High Density)
footprint NXP-SOT669_M (DPAK, 4-Leads, Body 5x4.1mm, Pitch 1.27mm, IPC Low Density)
pins: 1 S "source", 2 S "source", 3 S "source", 4 G "gate", 5 D "mounting base; connected to drain"
text: 1, 2, 3

## BUK7Y72-80EX
designator Q?
N-Channel Standard Level MOSFET, 80 V, 16 A, 5-Pin SOT669, Tape and Reel; Manufacturer: NXP Semiconductors; PartNumber: BUK7Y72-80EX; Automotive Qualified: Y; Channel Type: N; ID [max] (A): 16; IDM [max] (A): 63; Packing: Tape & Reel; Qr [typ] (nC): 20; VDS [max] (V): 80; VGSth [typ] (V): 3; PackageVersion: 13-02-27, 02/2013; PackageReference: SOT669; PackageDescription: 4-Pin Plastic Single-ended Surface Mounted Package, Body 4.9 x 3.95 mm, Pitch 1.27 mm; Supplier 1: Digi-Key; Supplier Part Number 1: BUK7Y72-80EX-ND; Supplier 2: Mouser; Supplier Part Number 2: 771-BUK7Y72-80EX; Mounting Technology: Surface Mount; Code_JEDEC: MO-235; ComponentLink1Description: Manufacturer URL; ComponentLink1URL: http://www.nxp.com/; ComponentLink2Description: Datasheet; ComponentLink2URL: http://www.nxp.com/documents/data_sheet/BUK7Y72-80E.pdf; ComponentLink3Description: Package Specification; ComponentLink3URL: http://www.nxp.com/documents/outline_drawing/sot669_po.pdf
footprint NXP-SOT669_N (DPAK, 4-Leads, Body 5x4.1mm, Pitch 1.27mm, IPC Medium Density)
footprint NXP-SOT669_L (DPAK, 4-Leads, Body 5x4.1mm, Pitch 1.27mm, IPC High Density)
footprint NXP-SOT669_M (DPAK, 4-Leads, Body 5x4.1mm, Pitch 1.27mm, IPC Low Density)
pins: 1 S "source", 2 S "source", 3 S "source", 4 G "gate", 5 D "mounting base; connected to drain"
text: 1, 2, 3

## BUK7Y98-80EX
designator Q?
N-Channel Standard Level MOSFET, 80 V, 12.3 A, 5-Pin SOT669, Tape and Reel; Manufacturer: NXP Semiconductors; PartNumber: BUK7Y98-80EX; Automotive Qualified: Y; Channel Type: N; ID [max] (A): 12.3; IDM [max] (A): 49; Packing: Tape & Reel; Qr [typ] (nC): 15.8; VDS [max] (V): 80; VGSth [typ] (V): 3; PackageVersion: 13-02-27, 02/2013; PackageReference: SOT669; PackageDescription: 4-Pin Plastic Single-ended Surface Mounted Package, Body 4.9 x 3.95 mm, Pitch 1.27 mm; Supplier 1: Digi-Key; Supplier Part Number 1: 568-10273-2-ND; Supplier 2: Digi-Key; Supplier Part Number 2: 568-10273-1-ND; Supplier 3: Digi-Key; Supplier Part Number 3: 568-10273-6-ND; Supplier 4: Mouser; Supplier Part Number 4: 771-BUK7Y98-80EX; Mounting Technology: Surface Mount; Code_JEDEC: MO-235; ComponentLink1Description: Manufacturer URL; ComponentLink1URL: http://www.nxp.com/; ComponentLink2Description: Datasheet; ComponentLink2URL: http://www.nxp.com/documents/data_sheet/BUK7Y98-80E.pdf; ComponentLink3Description: Package Specification; ComponentLink3URL: http://www.nxp.com/documents/outline_drawing/sot669_po.pdf
footprint NXP-SOT669_N (DPAK, 4-Leads, Body 5x4.1mm, Pitch 1.27mm, IPC Medium Density)
footprint NXP-SOT669_L (DPAK, 4-Leads, Body 5x4.1mm, Pitch 1.27mm, IPC High Density)
footprint NXP-SOT669_M (DPAK, 4-Leads, Body 5x4.1mm, Pitch 1.27mm, IPC Low Density)
pins: 1 S "source", 2 S "source", 3 S "source", 4 G "gate", 5 D "mounting base; connected to drain"
text: 1, 2, 3

## BUK7Y102-100B,115
designator Q?
N-Channel TrenchMOS Standard Level FET, 100 V, 15 A, 5-Pin SOT669, Tape and Reel; Manufacturer: NXP Semiconductors; PartNumber: BUK7Y102-100B,115; Automotive Qualified: Y; Channel Type: N; ID [max] (A): 15; IDM [max] (A): 60; Packing: Tape & Reel; Qr [typ] (nC): 122; VDS [max] (V): 100; VGSth [typ] (V): 3; DatasheetVersion: Rev. 03; PackageVersion: 13-02-27, 02/2013; PackageReference: SOT669; PackageDescription: 4-Pin Plastic Single-ended Surface Mounted Package, Body 4.9 x 3.95 mm, Pitch 1.27 mm; Supplier 1: Digi-Key; Supplier Part Number 1: 568-5513-2-ND; Supplier 2: Digi-Key; Supplier Part Number 2: 568-5513-1-ND; Supplier 3: Digi-Key; Supplier Part Number 3: 568-5513-6-ND; Supplier 4: Mouser; Supplier Part Number 4: 771-BUK7Y102-100B115; Mounting Technology: Surface Mount; Code_JEDEC: MO-235; ComponentLink1Description: Manufacturer URL; ComponentLink1URL: http://www.nxp.com/; ComponentLink2Description: Datasheet; ComponentLink2URL: http://www.nxp.com/documents/data_sheet/BUK7Y102-100B.pdf; ComponentLink3Description: Package Specification; ComponentLink3URL: http://www.nxp.com/documents/outline_drawing/sot669_po.pdf
footprint NXP-SOT669_N (DPAK, 4-Leads, Body 5x4.1mm, Pitch 1.27mm, IPC Medium Density)
footprint NXP-SOT669_L (DPAK, 4-Leads, Body 5x4.1mm, Pitch 1.27mm, IPC High Density)
footprint NXP-SOT669_M (DPAK, 4-Leads, Body 5x4.1mm, Pitch 1.27mm, IPC Low Density)
pins: 1 S "source", 2 S "source", 3 S "source", 4 G "gate", 5 D "mounting base; connected to drain"
text: 1, 2, 3

## BUK7Y113-100EX
designator Q?
N-Channel Standard Level MOSFET, 100 V, 12 A, 5-Pin SOT669, Tape and Reel; Manufacturer: NXP Semiconductors; PartNumber: BUK7Y113-100EX; Automotive Qualified: Y; Channel Type: N; ID [max] (A): 12; IDM [max] (A): 48; Packing: Tape & Reel; Qr [typ] (nC): 37; VDS [max] (V): 100; VGSth [typ] (V): 3; PackageVersion: 13-02-27, 02/2013; PackageReference: SOT669; PackageDescription: 4-Pin Plastic Single-ended Surface Mounted Package, Body 4.9 x 3.95 mm, Pitch 1.27 mm; Supplier 1: Digi-Key; Supplier Part Number 1: 568-10260-2-ND; Supplier 2: Digi-Key; Supplier Part Number 2: 568-10260-1-ND; Supplier 3: Digi-Key; Supplier Part Number 3: 568-10260-6-ND; Supplier 4: Mouser; Supplier Part Number 4: 771-BUK7Y113-100EX; Mounting Technology: Surface Mount; Code_JEDEC: MO-235; ComponentLink1Description: Manufacturer URL; ComponentLink1URL: http://www.nxp.com/; ComponentLink2Description: Datasheet; ComponentLink2URL: http://www.nxp.com/documents/data_sheet/BUK7Y113-100E.pdf; ComponentLink3Description: Package Specification; ComponentLink3URL: http://www.nxp.com/documents/outline_drawing/sot669_po.pdf
footprint NXP-SOT669_N (DPAK, 4-Leads, Body 5x4.1mm, Pitch 1.27mm, IPC Medium Density)
footprint NXP-SOT669_L (DPAK, 4-Leads, Body 5x4.1mm, Pitch 1.27mm, IPC High Density)
footprint NXP-SOT669_M (DPAK, 4-Leads, Body 5x4.1mm, Pitch 1.27mm, IPC Low Density)
pins: 1 S "source", 2 S "source", 3 S "source", 4 G "gate", 5 D "mounting base; connected to drain"
text: 1, 2, 3

## BUK7Y153-100EX
designator Q?
N-Channel Standard Level MOSFET, 100 V, 9.4 A, 5-Pin SOT669, Tape and Reel; Manufacturer: NXP Semiconductors; PartNumber: BUK7Y153-100EX; Automotive Qualified: Y; Channel Type: N; ID [max] (A): 9.4; IDM [max] (A): 37.5; Packing: Tape & Reel; Qr [typ] (nC): 27.8; VDS [max] (V): 100; VGSth [typ] (V): 3; PackageVersion: 13-02-27, 02/2013; PackageReference: SOT669; PackageDescription: 4-Pin Plastic Single-ended Surface Mounted Package, Body 4.9 x 3.95 mm, Pitch 1.27 mm; Supplier 1: Digi-Key; Supplier Part Number 1: 568-11416-2-ND; Supplier 2: Digi-Key; Supplier Part Number 2: 568-11416-1-ND; Supplier 3: Digi-Key; Supplier Part Number 3: 568-11416-6-ND; Supplier 4: Mouser; Supplier Part Number 4: 771-BUK7Y153-100EX; Mounting Technology: Surface Mount; Code_JEDEC: MO-235; ComponentLink1Description: Manufacturer URL; ComponentLink1URL: http://www.nxp.com/; ComponentLink2Description: Datasheet; ComponentLink2URL: http://www.nxp.com/documents/data_sheet/BUK7Y153-100E.pdf; ComponentLink3Description: Package Specification; ComponentLink3URL: http://www.nxp.com/documents/outline_drawing/sot669_po.pdf
footprint NXP-SOT669_N (DPAK, 4-Leads, Body 5x4.1mm, Pitch 1.27mm, IPC Medium Density)
footprint NXP-SOT669_L (DPAK, 4-Leads, Body 5x4.1mm, Pitch 1.27mm, IPC High Density)
footprint NXP-SOT669_M (DPAK, 4-Leads, Body 5x4.1mm, Pitch 1.27mm, IPC Low Density)
pins: 1 S "source", 2 S "source", 3 S "source", 4 G "gate", 5 D "mounting base; connected to drain"
text: 1, 2, 3

## BUK9C07-65BIT,118
designator Q?
N-Channel TrenchPLUS Logic Level FET, 65 V, 75 A, 7-Pin SOT427, Tape and Reel; Manufacturer: NXP Semiconductors; PartNumber: BUK9C07-65BIT,118; Automotive Qualified: Y; Channel Type: N; ID [max] (A): 75; IDM [max] (A): 550; Packing: Tape & Reel; Qr [typ] (nC): 0.161; VDS [max] (V): 65; VGSth [typ] (V): 1.5; DatasheetVersion: Rev. 03; PackageVersion: 12-10-16, 10/2012; PackageReference: SOT427; PackageDescription: 7-Pin Plastic Single-ended Surface Mounted Package, Body 10 x 9.6 mm, Pitch 1.27 mm; Mounting Technology: Surface Mount; ComponentLink1Description: Manufacturer URL; ComponentLink1URL: http://www.nxp.com/; ComponentLink2Description: Datasheet; ComponentLink2URL: http://www.nxp.com/documents/data_sheet/BUK9C07-65BIT.pdf; ComponentLink3Description: Package Specification; ComponentLink3URL: http://www.nxp.com/documents/outline_drawing/sot427_po.pdf
footprint NXP-SOT427_N (D2-PAK, 7-Leads, Body 9.80x10.30mm, IPC Medium Density)
footprint NXP-SOT427_L (D2-PAK, 7-Leads, Body 9.80x10.30mm, IPC High Density)
footprint NXP-SOT427_M (D2-PAK, 7-Leads, Body 9.80x10.30mm, IPC Low Density)
part A pins: 1 G "gate", 2 IS "current sense", 6 KS "Kelvin source", 7 S "source", 8 D "mb"
part B pins: 3 A "anode", 5 K "cathode"

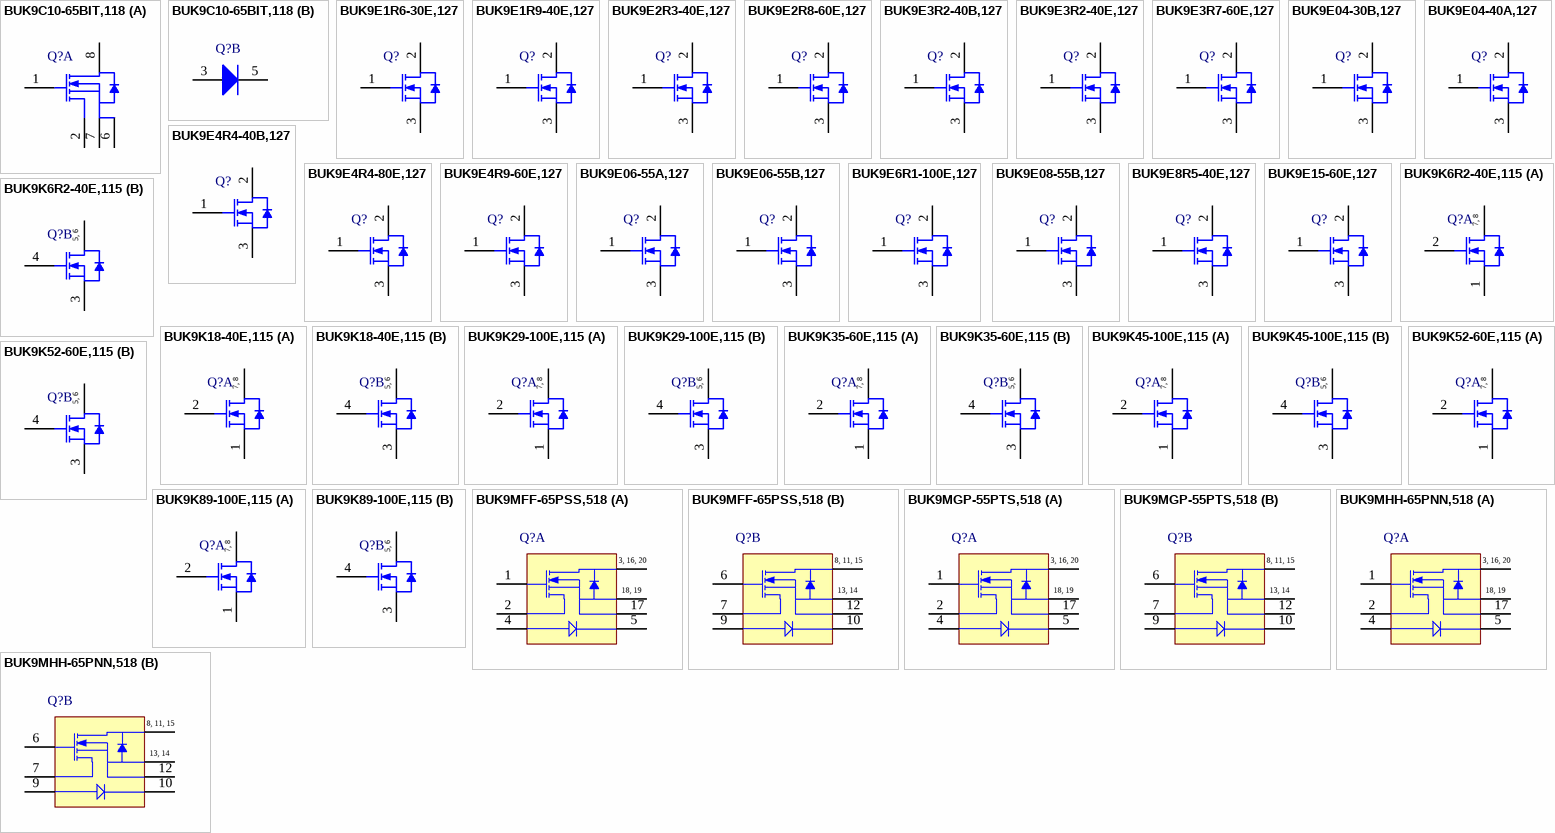
[diagram p3: symbols BUK9C10-65BIT,118 to BUK9MHH-65PNN,518]

## BUK9C10-65BIT,118
designator Q?
N-Channel TrenchPLUS Logic Level FET, 65 V, 75 A, 7-Pin SOT427, Tape and Reel; Manufacturer: NXP Semiconductors; PartNumber: BUK9C10-65BIT,118; Automotive Qualified: Y; Channel Type: N; ID [max] (A): 75; IDM [max] (A): 346; Packing: Tape & Reel; Qr [typ] (nC): 0.12; VDS [max] (V): 65; VGSth [typ] (V): 1.5; DatasheetVersion: Rev. 02; PackageVersion: 12-10-16, 10/2012; PackageReference: SOT427; PackageDescription: 7-Pin Plastic Single-ended Surface Mounted Package, Body 10 x 9.6 mm, Pitch 1.27 mm; Mounting Technology: Surface Mount; ComponentLink1Description: Manufacturer URL; ComponentLink1URL: http://www.nxp.com/; ComponentLink2Description: Datasheet; ComponentLink2URL: http://www.nxp.com/documents/data_sheet/BUK9C10-65BIT.pdf; ComponentLink3Description: Package Specification; ComponentLink3URL: http://www.nxp.com/documents/outline_drawing/sot427_po.pdf
footprint NXP-SOT427_N (D2-PAK, 7-Leads, Body 9.80x10.30mm, IPC Medium Density)
footprint NXP-SOT427_L (D2-PAK, 7-Leads, Body 9.80x10.30mm, IPC High Density)
footprint NXP-SOT427_M (D2-PAK, 7-Leads, Body 9.80x10.30mm, IPC Low Density)
part A pins: 1 G "gate", 2 IS "current sense", 6 KS "Kelvin source", 7 S "source", 8 D "mb"
part B pins: 3 A "anode", 5 K "cathode"

## BUK9E1R6-30E,127
designator Q?
N-Channel TrenchMOS Logic Level FET, 30 V, 120 A, 3-Pin SOT226, Rail; Manufacturer: NXP Semiconductors; PartNumber: BUK9E1R6-30E,127; Automotive Qualified: Y; Channel Type: N; ID [max] (A): 120; IDM [max] (A): 1400; Qr [typ] (nC): 112; VDS [max] (V): 30; VGSth [typ] (V): 1.7; PackageVersion: 09-08-25, 08/2009; PackageReference: SOT226; PackageDescription: 3-Pin Flange Mount, Vertical Straight Lead, Body 10 x 4.3 mm, Pitch 2.54 mm; Supplier 1: Digi-Key; Supplier Part Number 1: 568-9869-5-ND; Supplier 2: Newark; Supplier Part Number 2: 45W7259; Supplier 3: Mouser; Supplier Part Number 3: 771-BUK9E1R6-30E127; Packing: Rail; Mounting Technology: Through Hole; Code_JEDEC: TO-262; ComponentLink1Description: Manufacturer URL; ComponentLink1URL: http://www.nxp.com/; ComponentLink2Description: Datasheet; ComponentLink2URL: http://www.nxp.com/documents/data_sheet/BUK9E1R6-30E.pdf; ComponentLink3Description: Package Specification; ComponentLink3URL: http://www.nxp.com/documents/outline_drawing/sot226_po.pdf
footprint NXP-SOT226 (FM, 3-Leads, Body 10.3x4.5mm, Pitch 2.54mm)
pins: 1 G "gate", 2 D "drain", 3 S "source"

## BUK9E1R9-40E,127
designator Q?
N-Channel Logic Level MOSFET, 40 V, 120 A, 3-Pin SOT226, Rail; Manufacturer: NXP Semiconductors; PartNumber: BUK9E1R9-40E,127; Automotive Qualified: Y; Channel Type: N; ID [max] (A): 120; IDM [max] (A): 1228; Qr [typ] (nC): 97; VDS [max] (V): 40; VGSth [typ] (V): 1.7; PackageVersion: 09-08-25, 08/2009; PackageReference: SOT226; PackageDescription: 3-Pin Flange Mount, Vertical Straight Lead, Body 10 x 4.3 mm, Pitch 2.54 mm; Supplier 1: Digi-Key; Supplier Part Number 1: 568-9870-5-ND; Supplier 2: Mouser; Supplier Part Number 2: 771-BUK9E1R9-40E127; Packing: Rail; Mounting Technology: Through Hole; Code_JEDEC: TO-262; ComponentLink1Description: Manufacturer URL; ComponentLink1URL: http://www.nxp.com/; ComponentLink2Description: Datasheet; ComponentLink2URL: http://www.nxp.com/documents/data_sheet/BUK9E1R9-40E.pdf; ComponentLink3Description: Package Specification; ComponentLink3URL: http://www.nxp.com/documents/outline_drawing/sot226_po.pdf
footprint NXP-SOT226 (FM, 3-Leads, Body 10.3x4.5mm, Pitch 2.54mm)
pins: 1 G "gate", 2 D "drain", 3 S "source"